# Altium footprint library potDir_2eixos_v1.PcbLib: 1 footprints
Each footprint in its own frame and in the unit in brackets; x right, y up, seen from the top. Pads: shape width x height; smd on the part's side, far side on the other; paste and mask are expansions set on the pad; w line width, h text height; cw(c..) or ccw(c..) is an arc to the next point about the centre after c.
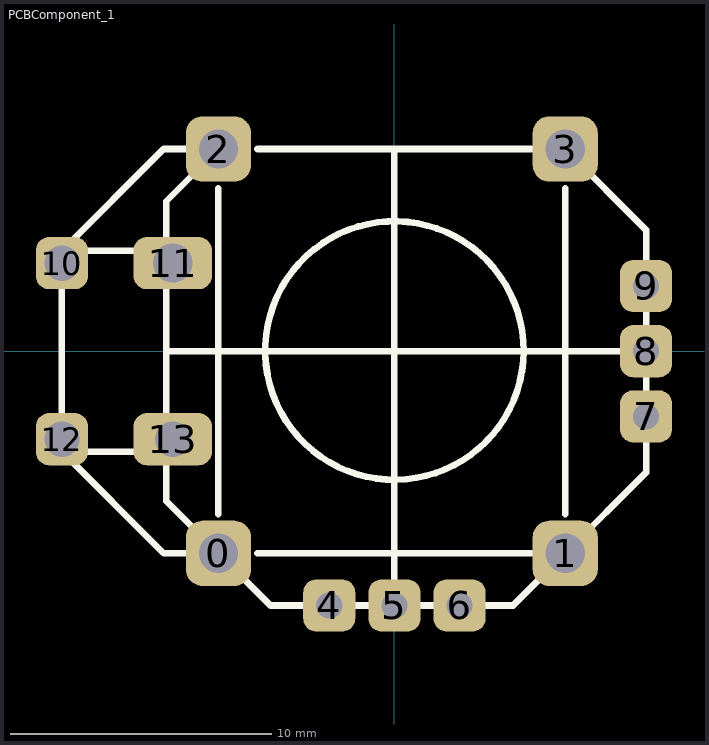
[diagram p0: the footprint, top view; thin cyan lines are the x and y axes]

## PCBComponent_1 [mm]
pads (14):
  rrect50% 2.5x2.5 hole 1.5: 0(-6.75,-7.75) 1(6.55,-7.75) 2(-6.75,7.75) 3(6.55,7.75)
  rrect50% 2x2 hole 1: 4(-2.5,-9.75) 5(0,-9.75) 6(2.5,-9.75) 7(9.65,-2.5) 8(9.65,0) 9(9.65,2.5)
  rrect50% 2x2 hole 1.35: 10(-12.75,3.375) 12(-12.75,-3.375)
  rrect50% 3x2 hole 1.5: 11(-8.5,3.375)
  rrect50% 3x2 hole 1.35: 13(-8.5,-3.375)
Top Overlay:
  lines w0.254: -8.75,0 -6.75,0 9.65,0 ; -6.75,-6.25 -6.75,6.25 ; -5.25,-7.75 5.25,-7.75 ; -5.25,7.75 5.25,7.75 ; 0,-9.75 0,7.75 ; 6.55,-6.25 6.55,6.25 ; 6.55,7.75 9.65,4.65 9.65,2.5 9.65,-2.5 9.65,-4.65 6.55,-7.75 4.55,-9.75 2.5,-9.75 -2.5,-9.75 -4.75,-9.75 -6.75,-7.75 ; -12.75,-3.85 -8.85,-7.75 -6.75,-7.75 ; -12.75,-3.85 -8.75,-3.85 ; -12.75,-3.85 -12.75,3.85 ; -12.75,3.85 -8.85,7.75 -6.75,7.75 -8.75,5.75 -8.75,3.85 ; -12.75,3.85 -8.75,3.85 ; -8.75,-3.85 -8.75,-5.75 -6.75,-7.75 ; -8.75,-3.85 -8.75,3.85 ; 4.954,0 ccw(c0,0.025) 4.954,0
3D body: height 19, standoff -4.3, extent -16.076,-11.775 11.8,9.525